# EAGLE library part ATX-PWR-RT (library me)
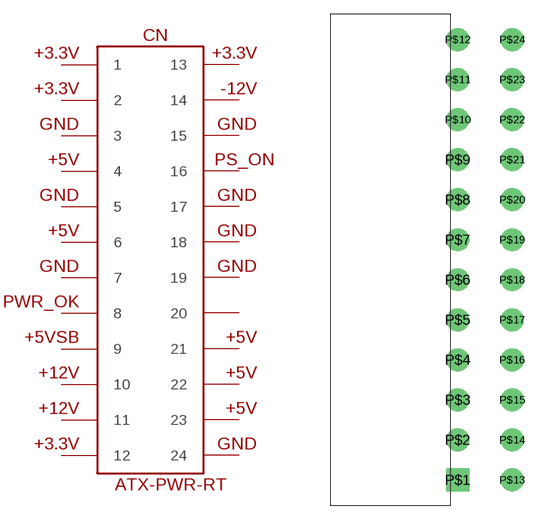
[diagram p2: symbol with the pads of ATX-PS-RT; footprint ATX-PS-RT]

Designator prefix CN

## ATX-PWR-RT  [ATX-PS-RT]
P$1  1
P$2  2
P$3  3
P$4  4
P$5  5
P$6  6
P$7  7
P$8  8
P$9  9
P$10  10
P$11  11
P$12  12
P$13  13
P$14  14
P$15  15
P$16  16
P$17  17
P$18  18
P$19  19
P$20  20
P$21  21
P$22  22
P$23  23
P$24  24

## Footprint ATX-PS-RT (pad centres in mm)
drill 1.6 square: P$1 0.75,-23.1
drill 1.6: P$2 0.75,-18.9; P$3 0.75,-14.7; P$4 0.75,-10.5; P$5 0.75,-6.3; P$6 0.75,-2.1; P$7 0.75,2.1; P$8 0.75,6.3; P$9 0.75,10.5; P$10 0.75,14.7; P$11 0.75,18.9; P$12 0.75,23.1; P$13 6.45,-23.1; P$14 6.45,-18.9; P$15 6.45,-14.7; P$16 6.45,-10.5; P$17 6.45,-6.3; P$18 6.45,-2.1; P$19 6.45,2.1; P$20 6.45,6.3; P$21 6.45,10.5; P$22 6.45,14.7; P$23 6.45,18.9; P$24 6.45,23.1